# EAGLE library part AN240P (library _mtvl_ic)
TV Sound IF Amplifier, FM Detector circuit
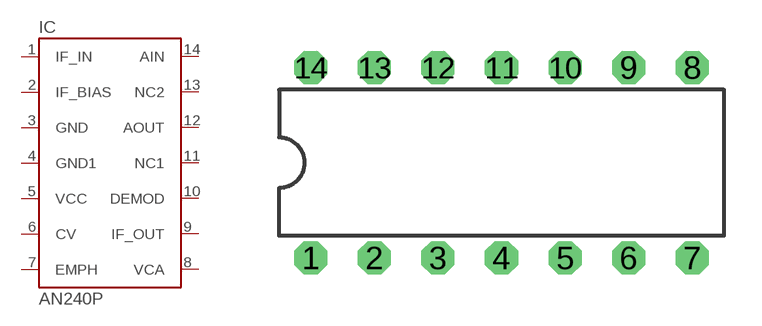
[diagram p61: symbol with the pads of DIL14_; footprint DIL14_]

Designator prefix IC

## AN240P  [DIL14_]
1  IF_IN  in
2  IF_BIAS  in
3  GND  pwr
4  GND1  pwr
5  VCC  pwr
6  CV  in
7  EMPH
8  VCA  out
9  IF_OUT  out
10  DEMOD  out
11  NC1
12  AOUT  out
13  NC2
14  AIN  in

## Footprint DIL14_ (pad centres in mm)
Dual In Line Package
drill 0.813 octagon: 1 -7.62,-3.81; 2 -5.08,-3.81; 3 -2.54,-3.81; 4 0,-3.81; 5 2.54,-3.81; 6 5.08,-3.81; 7 7.62,-3.81; 8 7.62,3.81; 9 5.08,3.81; 10 2.54,3.81; 11 0,3.81; 12 -2.54,3.81; 13 -5.08,3.81; 14 -7.62,3.81